# EAGLE library part PCM2906C (library Custom_Library)
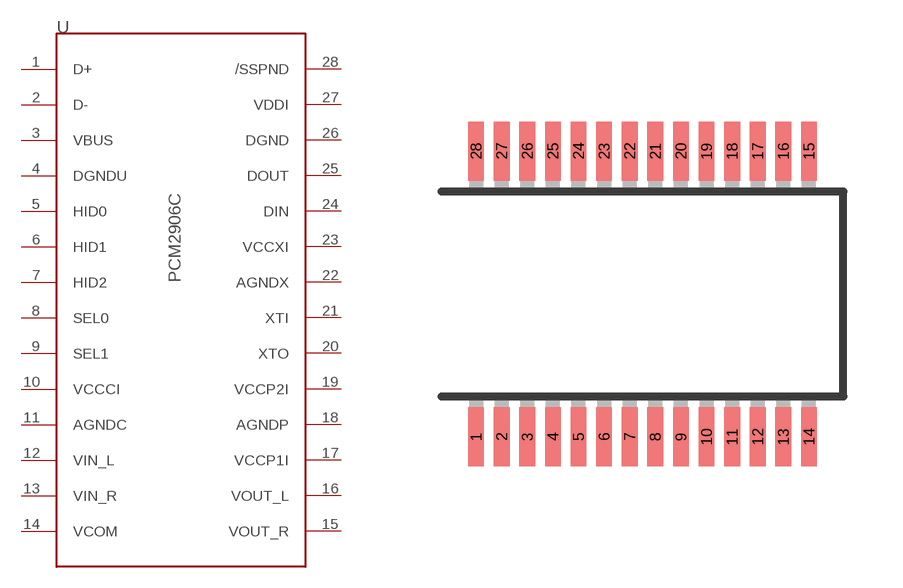
[diagram p17: symbol with the pads of SSOP28; footprint SSOP28]

Designator prefix U

## PCM2906C  [SSOP28]
1  D+
2  D-
3  VBUS
4  DGNDU
5  HID0
6  HID1
7  HID2
8  SEL0
9  SEL1
10  VCCCI
11  AGNDC
12  VIN_L
13  VIN_R
14  VCOM
15  VOUT_R
16  VOUT_L
17  VCCP1I
18  AGNDP
19  VCCP2I
20  XTO
21  XTI
22  AGNDX
23  VCCXI
24  DIN
25  DOUT
26  DGND
27  VDDI
28  /SSPND

## Footprint SSOP28 (pad centres in mm)
smd 0.4 x 1.5: 1 -4.438,-3.739; 2 -3.788,-3.739; 3 -3.138,-3.739; 4 -2.488,-3.739; 5 -1.838,-3.739; 6 -1.188,-3.739; 7 -0.538,-3.739; 8 0.112,-3.739; 9 0.762,-3.739; 10 1.412,-3.739; 11 2.062,-3.739; 12 2.712,-3.739; 13 3.362,-3.739; 14 4.012,-3.739; 15 4.012,3.511; 16 3.362,3.511; 17 2.712,3.511; 18 2.062,3.511; 19 1.412,3.511; 20 0.762,3.511; 21 0.112,3.511; 22 -0.538,3.511; 23 -1.188,3.511; 24 -1.838,3.511; 25 -2.488,3.511; 26 -3.138,3.511; 27 -3.788,3.511; 28 -4.438,3.511